# EAGLE library part CON20P1R (library ads4)
20-pin single-row connectors
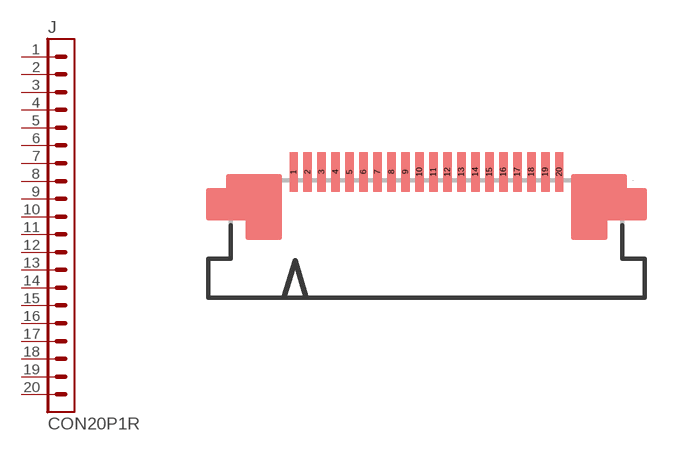
[diagram p103: symbol with the pads of SFV_R-1ST; footprint SFV_R-1ST]

Designator prefix J

## CON20P1RSFV20R-1ST  [SFV_R-1ST]
1  1  pas
2  2  pas
3  3  pas
4  4  pas
5  5  pas
6  6  pas
7  7  pas
8  8  pas
9  9  pas
10  10  pas
11  11  pas
12  12  pas
13  13  pas
14  14  pas
15  15  pas
16  16  pas
17  17  pas
18  18  pas
19  19  pas
20  20  pas

## Footprint SFV_R-1ST (pad centres in mm)
FCI FFC Connector 20-pin 0.5mm bottom-contact For example, part number SFV20R-1STE1LF
smd 0.3 x 1.4: 1 -4.75,0; 2 -4.25,0; 3 -3.75,0; 4 -3.25,0; 5 -2.75,0; 6 -2.25,0; 7 -1.75,0; 8 -1.25,0; 9 -0.75,0; 10 -0.25,0; 11 0.25,0; 12 0.75,0; 13 1.25,0; 14 1.75,0; 15 2.25,0; 16 2.75,0; 17 3.25,0; 18 3.75,0; 19 4.25,0; 20 4.75,0